# EAGLE library part REG103UA-5 (library satellite)
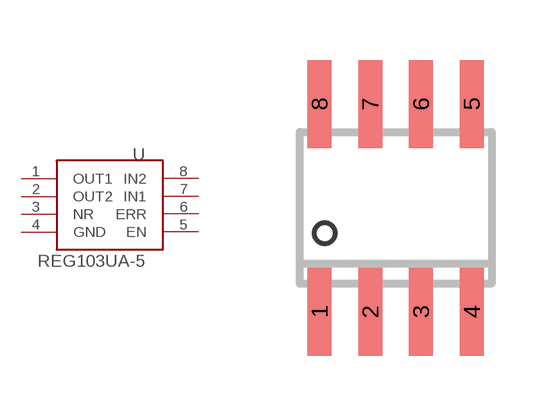
[diagram p20: symbol with the pads of SO8; footprint SO8]

Designator prefix -

## REG103UA-5  [SO8]
1  OUT1  pwr
2  OUT2  pwr
3  NR
4  GND  pwr
5  EN
6  ERR
7  IN1  pwr
8  IN2  pwr

## Footprint SO8 (pad centres in mm)
SMALL OUTLINE INTEGRATED CIRCUIT
smd 0.6 x 2.2: 1 -1.905,-2.6; 2 -0.635,-2.6; 3 0.635,-2.6; 4 1.905,-2.6; 5 1.905,2.6; 6 0.635,2.6; 7 -0.635,2.6; 8 -1.905,2.6